# Altium schematic symbol library HF_Transformer_24v.SchLib: 1 symbol
Pins are listed as number, name and electrical type; pins without a type are passive.

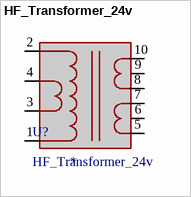
[diagram p0: symbol HF_Transformer_24v]

## HF_Transformer_24v
designator U?
72W ; 24v 3A Transformer; LCSC: *
footprint HF_Transformer_24v
pins: 1, 2, 3, 4, 5, 6, 7, 8, 9, 10